# Altium schematic symbol library tps259530dsgr.SchLib: 1 symbol
Pins are listed as number, name and electrical type; pins without a type are passive.

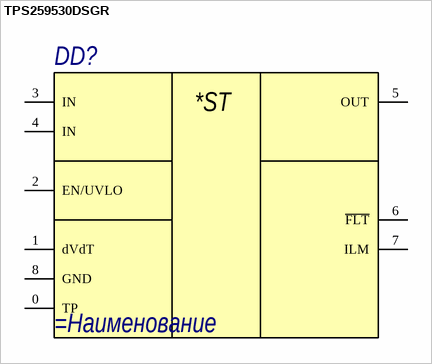
[diagram p0: symbol TPS259530DSGR]

## TPS259530DSGR
designator DD?
=Описание
pins: 0 TP, 1 dVdT, 2 EN/UVLO, 3 IN, 4 IN, 5 OUT, 6 ~{FLT}, 7 ILM, 8 GND
text: *ST